# Altium footprint library XTAL500X320X135N.PcbLib: 2 footprints
Each footprint in its own frame and in the unit in brackets; x right, y up, seen from the top. Pads: shape width x height; smd on the part's side, far side on the other; paste and mask are expansions set on the pad; w line width, h text height; cw(c..) or ccw(c..) is an arc to the next point about the centre after c.
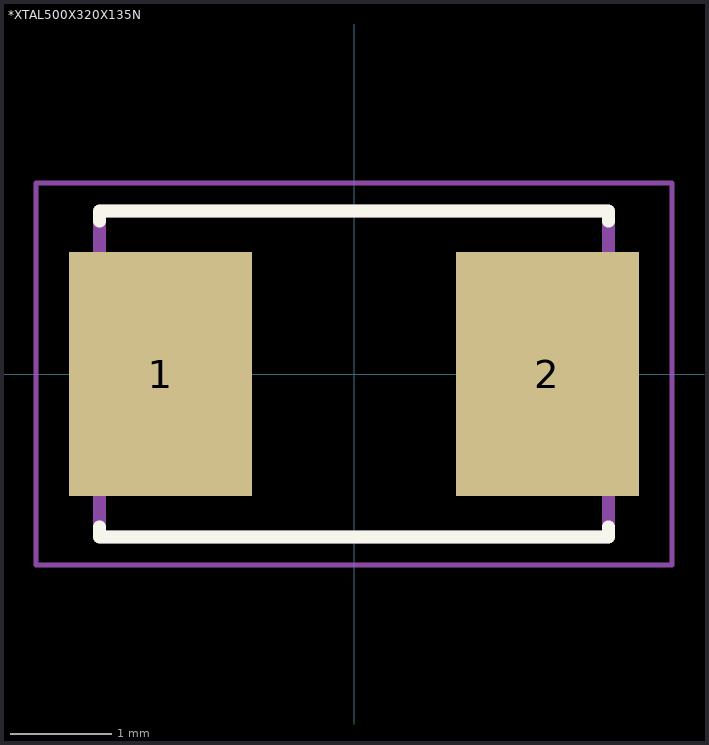
[diagram p0: the footprints below, top view; thin cyan lines are the x and y axes]

## *XTAL500X320X135N [mm]
pads (2):
  rect 1.8x2.4 smd: 1(-1.9,0) 2(1.9,0)
Top Overlay:
  lines w0.127: -2.5,-1.5 -2.5,-1.6 2.5,-1.6 2.5,-1.5 ; -2.5,1.5 -2.5,1.6 2.5,1.6 2.5,1.5
Mechanical 4:
  lines w0.127: -2.5,-1.6 -2.5,1.6 ; -2.5,-1.6 2.5,-1.6 ; -2.5,-1.6 -2.5,1.6 ; -2.5,-1.6 2.5,-1.6 ; -2.5,1.6 2.5,1.6 ; -2.5,1.6 2.5,1.6 ; 2.5,-1.6 2.5,1.6 ; 2.5,-1.6 2.5,1.6
Mechanical 16:
  lines w0.05: -3.125,-1.875 -3.125,1.875 3.125,1.875 3.125,-1.875 -3.125,-1.875

## PCBComponent_1 [mm]